# Altium footprint library FootprintsPersonals.PcbLib: 152 footprints (part 9 of 10)
Each footprint in its own frame and in the unit in brackets; x right, y up, seen from the top. Pads: shape width x height; smd on the part's side, far side on the other; paste and mask are expansions set on the pad; w line width, h text height; cw(c..) or ccw(c..) is an arc to the next point about the centre after c.
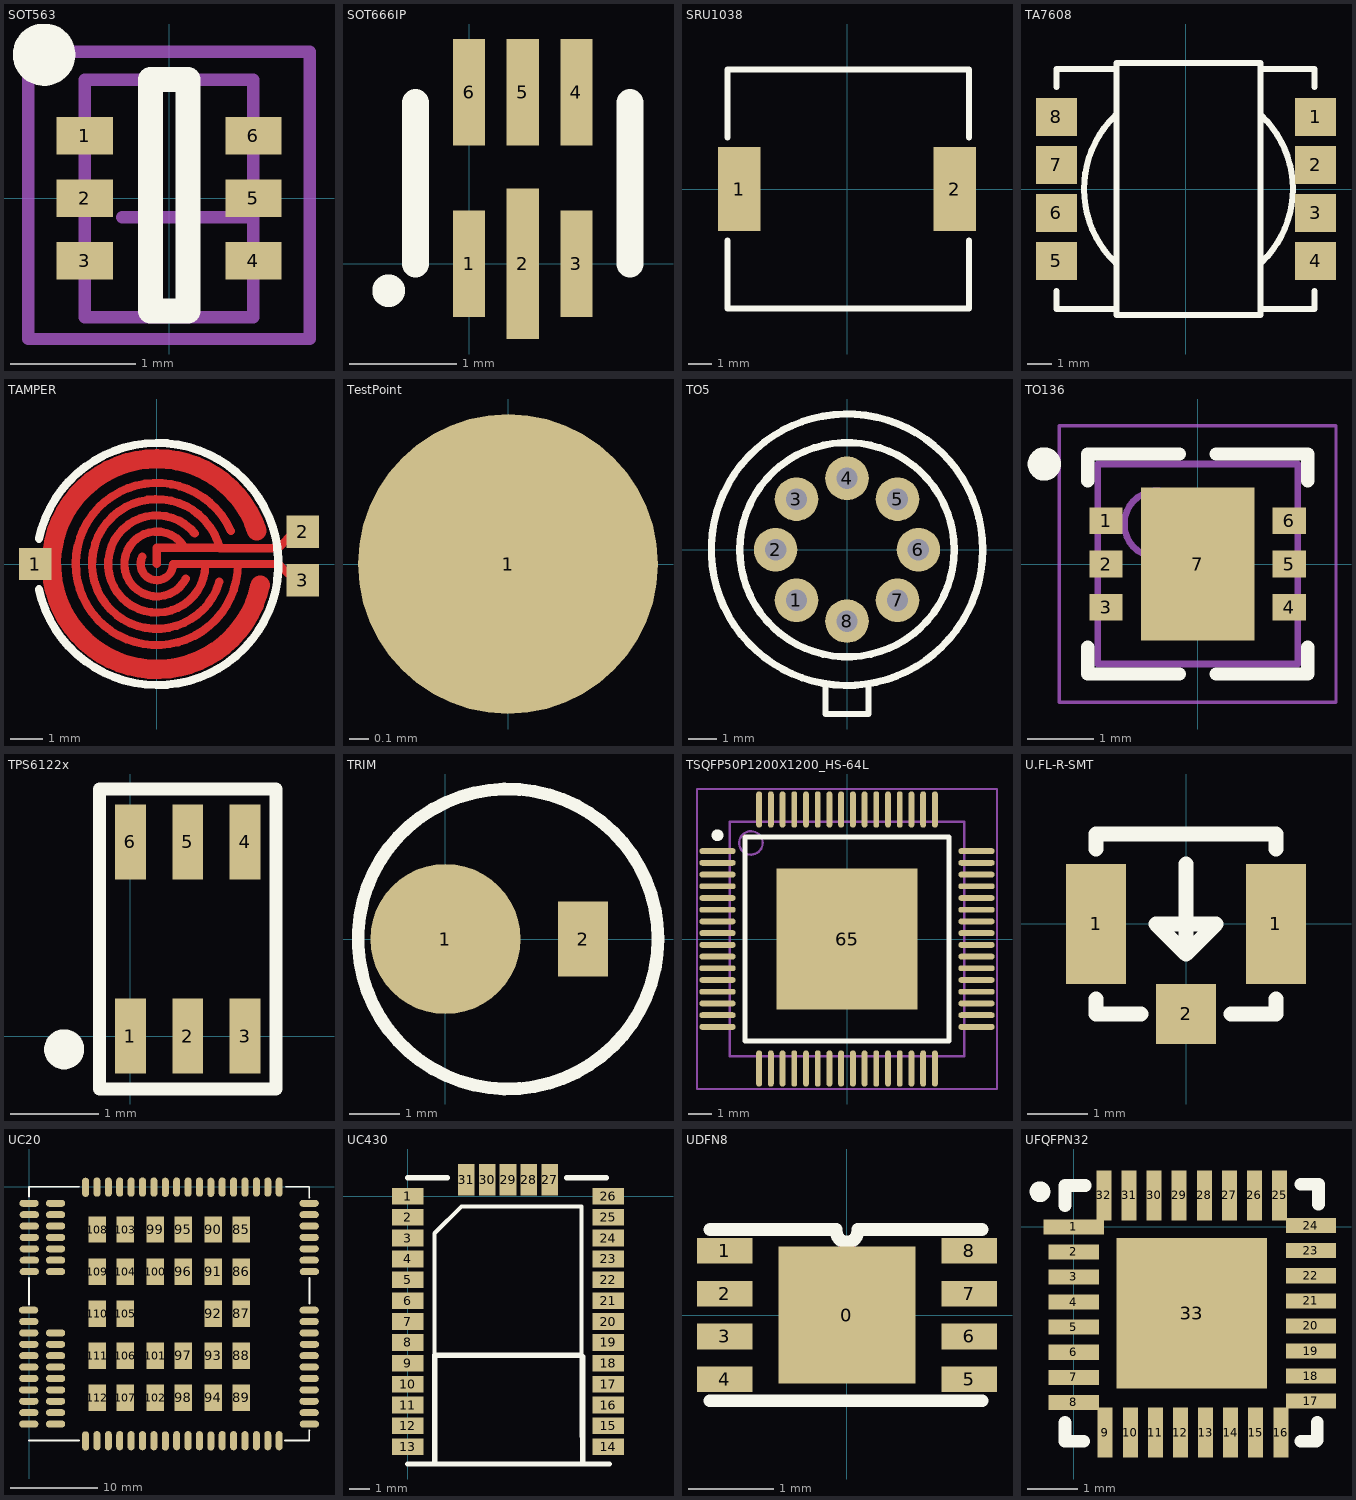
[diagram p8: the footprints below, top view; thin cyan lines are the x and y axes]

## SOT563 [mm] "SOT563, 5-Leads, Body 1.7x1.3mm, Pitch 0.5mm, Lead Span 0.3mm - IPC High Density"
height 0.6
pads (6):
  rect 0.45x0.3 smd: 1(-0.675,0.5) 2(-0.675,0) 3(-0.675,-0.5) 4(0.675,-0.5) 5(0.675,0) 6(0.675,0.5)
Top Overlay:
  circle w0.25: c-1,1.15 r0.125
  lines w0.2: -0.15,-0.9 -0.15,0.95 0.15,0.95 0.15,-0.9 -0.15,-0.9
Mechanical 13:
  lines w0.1: -0.675,-0.95 0.675,-0.95 0.675,0.95 -0.675,0.95 -0.675,-0.95
Mechanical 15:
  lines w0.1: -0.375,-0.15 0.625,-0.15 ; 0.125,-0.65 0.125,0.35 ; -1.125,-1.125 1.125,-1.125 1.125,1.175 -1.125,1.175 -1.125,-1.125
3D body: height 1.1, standoff 0, extent -0.675,-0.95 0.675,0.95

## SOT666IP [mm]
height 0.6
pads (6):
  rect 0.3x0.99 smd: 1(0,0) 3(1,0) 4(1,1.6) 5(0.5,1.6) 6(0,1.6)
  rect 0.3x1.4 smd: 2(0.5,0)
Top Overlay:
  circle w0.254: c-0.75,-0.25 r0.025
  lines w0.254: -0.5,0 -0.5,1.5 ; 1.5,0 1.5,1.5

## SRU1038 [mm] "Shielded SMD Power Inductors"
height 4.1
pads (2):
  rect 1.8x3.6 smd: 1(-4.6,0) 2(4.6,0)
Top Overlay:
  lines w0.254: -5.1,-2.2 -5.1,-5.1 0,-5.1 5.2,-5.1 5.2,-2.2 ; -5.1,2.2 -5.1,5.1 0,5.1 5.2,5.1 5.2,2.2

## TA7608 [mm]
height 6
pads (8):
  rect 1.7x1.6 smd: 1(5.4,3) 2(5.4,1) 3(5.4,-1) 4(5.4,-3) 5(-5.4,-3) 6(-5.4,-1) 7(-5.4,1) 8(-5.4,3)
Top Overlay:
  lines w0.254: -5.4,-4.25 -5.4,-5 -2.9,-5 ; -5.4,4.25 -5.4,5 ; -5.15,5 -5.4,5 ; -2.954,3.056 ccw(c0,0) -2.936,-3.073 ; -2.9,5 -5.4,5 ; 3.1,-5 5.35,-5 5.35,-4.25 ; 3.1,5 5.35,5 5.35,4.25 ; 3.136,3.073 cw(c0.2,0) 3.154,-3.056 ; -2.9,-5.25 3.1,-5.25 3.1,5.25 -2.9,5.25 -2.9,-5.25
3D body "Coilcraft-TA7608-AL.STEP": height 5.97, standoff 0, extent -6.15,-5 5.92,5

## TAMPER [mm]
pads (3):
  rect 1x1 smd paste+0 mask+0.102: 1(-3.75,0) 2(4.5,1) 3(4.5,-0.5)
Top Layer:
  lines w0.254: -0.447,0.224 ccw(c0,0) 0.5,0 2.488,0 3.75,0 4.25,-0.5 ; 0,0 0,0.5 2,0.5 ; 0.832,0.555 ccw(c0,0) 0.894,-0.447 ; 1.171,0.937 ccw(c0,0) 1.5,0 ; 1.48,-0.247 1.48,-0.23 ; 1.923,-0.549 cw(c0,0) 1.94,0.485 3.735,0.485 4.25,1 ; 2.285,1.015 ccw(c0,0) 2.5,0 ; 3.167,-0.731 3.167,-0.583
  lines w0.6: 3.083,1.028 ccw(c0,0) 3.182,-0.66
Top Overlay:
  lines w0.254: -3.634,-0.779 ccw(c0.017,0) -3.634,0.779

## TestPoint [mil]
pads (1):
  round 60 smd: 1(0,0)

## TO5 [mil]
pads (8):
  round 60 hole 29.53: 1(-69.6,-69.6) 2(-98.43,0) 3(-69.6,69.6) 4(0,98.43) 5(69.6,69.6) 6(98.43,0) 7(69.6,-69.6) 8(0,-98.43)
Top Overlay:
  circle w10: c0,0 r187.01
  circle w10: c0,0 r147.64
  lines w7.87: -29.53,-187.01 -29.53,-226.38 29.53,-226.38 29.53,-187.01

## TO136 [mm] "QFN, 6-Leads, Body 3,00x3,00mm, Pitch 0,65mm, Thermal Pad 1,70x2,30mm, IPC Medium Density"
height 1
pads (7):
  rect 0.5x0.4 smd: 1(-1.375,0.65) 2(-1.375,0) 3(-1.375,-0.65) 4(1.375,-0.65) 5(1.375,0) 6(1.375,0.65)
  rect 1.7x2.3 smd: 7(0,0)
Top Overlay:
  circle w0.25: c-2.3,1.5 r0.125
  lines w0.2: -1.65,-1.25 -1.65,-1.65 -0.275,-1.65 ; -1.65,1.25 -1.65,1.65 -0.275,1.65 ; 0.275,-1.65 1.65,-1.65 1.65,-1.25 ; 0.275,1.65 1.65,1.65 1.65,1.25
Mechanical 13:
  circle w0.1: c-0.6,0.6 r0.5
  lines w0.1: -1.5,-1.5 1.5,-1.5 1.5,1.5 -1.5,1.5 -1.5,-1.5
Mechanical 15:
  lines w0.05: -2.075,-2.075 2.075,-2.075 2.075,2.075 -2.075,2.075 -2.075,-2.075
  lines w0.1: -0.5,0 0.5,0 ; 0,-0.5 0,0.5
3D body "TO136-2.step": height 1, standoff 0, extent -1.501,-1.5 1.501,1.5

## TPS6122x [mm] "LDO Regulator"
pads (6):
  rect 0.35x0.85 smd: 1(0,0) 2(0.65,0) 3(1.3,0) 4(1.3,2.2) 5(0.65,2.2) 6(0,2.2)
Top Overlay:
  circle w0.254: c-0.75,-0.15 r0.1
  lines w0.15: -0.35,-0.6 1.65,-0.6 1.65,2.8 -0.35,2.8 -0.35,-0.6
3D body: height 1.1, standoff 0.1, extent -0.15,-0.4 1.45,2.6

## TRIM [mm]
height 8
pads (2):
  round 3 smd: 1(0,0)
  rect 1x1.5 smd: 2(2.75,0)
Top Overlay:
  circle w0.254: c1.25,0 r3

## TSQFP50P1200X1200_HS-64L [mm] "Thin QFP, 64-Leads, Body 10x10mm, Pitch 0.5mm, Exposed Pad, IPC High Density"
height 1.2
pads (65):
  oval 1.55x0.25 smd: 1(-5.525,3.75) 2(-5.525,3.25) 3(-5.525,2.75) 4(-5.525,2.25) 5(-5.525,1.75) 6(-5.525,1.25) 7(-5.525,0.75) 8(-5.525,0.25) 9(-5.525,-0.25) 10(-5.525,-0.75) 11(-5.525,-1.25) 12(-5.525,-1.75) 13(-5.525,-2.25) 14(-5.525,-2.75) 15(-5.525,-3.25) 16(-5.525,-3.75) 33(5.525,-3.75) 34(5.525,-3.25) 35(5.525,-2.75) 36(5.525,-2.25) 37(5.525,-1.75) 38(5.525,-1.25) 39(5.525,-0.75) 40(5.525,-0.25) 41(5.525,0.25) 42(5.525,0.75) 43(5.525,1.25) 44(5.525,1.75) 45(5.525,2.25) 46(5.525,2.75) 47(5.525,3.25) 48(5.525,3.75)
  oval 0.25x1.55 smd: 17(-3.75,-5.525) 18(-3.25,-5.525) 19(-2.75,-5.525) 20(-2.25,-5.525) 21(-1.75,-5.525) 22(-1.25,-5.525) 23(-0.75,-5.525) 24(-0.25,-5.525) 25(0.25,-5.525) 26(0.75,-5.525) 27(1.25,-5.525) 28(1.75,-5.525) 29(2.25,-5.525) 30(2.75,-5.525) 31(3.25,-5.525) 32(3.75,-5.525) 49(3.75,5.525) 50(3.25,5.525) 51(2.75,5.525) 52(2.25,5.525) 53(1.75,5.525) 54(1.25,5.525) 55(0.75,5.525) 56(0.25,5.525) 57(-0.25,5.525) 58(-0.75,5.525) 59(-1.25,5.525) 60(-1.75,5.525) 61(-2.25,5.525) 62(-2.75,5.525) 63(-3.25,5.525) 64(-3.75,5.525)
  rect 6x6 smd: 65(0,0)
Top Overlay:
  circle w0.25: c-5.525,4.425 r0.125
  lines w0.2: -4.35,-4.35 4.35,-4.35 4.35,4.35 -4.35,4.35 -4.35,-4.35
Mechanical 13:
  circle w0.1: c-4.1,4.1 r0.5
  lines w0.1: -5,-5 5,-5 5,5 -5,5 -5,-5
Mechanical 15:
  lines w0.1: -0.5,0 0.5,0 ; 0,-0.5 0,0.5 ; -6.4,-6.4 6.4,-6.4 6.4,6.4 -6.4,6.4 -6.4,-6.4
3D body: height 1.2, standoff 0, extent -5,-5 5,5

## U.FL-R-SMT [mm] "HIROSE SMD U.FL Antena connector."
height 1.27
pads (3):
  rect 1x2 smd: 1(-1.5,0) 1(1.5,0)
  rect 1x1 smd: 2(0,-1.5)
Top Overlay:
  lines w0.254: -1.5,-1.25 -1.5,-1.5 -0.75,-1.5 ; -1.5,1.25 -1.5,1.5 1.5,1.5 1.5,1.25 ; 0,1 0,-0.5 ; 0.75,-1.5 1.5,-1.5 1.5,-1.25 ; 0,-0.5 -0.5,0 0.5,0 0,-0.5

## UC20 [mm]
pads (116):
  oval 2.2x0.8 smd: 1(0,-1.9) 1(3.025,-1.9) 2(0.025,-3.2) 2(3.025,-3.2) 3(0.025,-4.5) 3(3.025,-4.5) 4(0.025,-5.8) 4(3.025,-5.8) 5(0.025,-7.1) 5(3.025,-7.1) 6(0.025,-8.4) 6(3.025,-8.4) 7(0.025,-9.7) 7(3.025,-9.7) 8(-0.05,-14.1) 9(-0.025,-15.4) 10(-0.025,-16.7) 10(3.025,-16.7) 11(-0.025,-18) 11(3.025,-18) 12(-0.025,-19.3) 12(3.025,-19.3) 13(-0.025,-20.6) 13(3.025,-20.6) 14(-0.025,-21.9) 14(3.025,-21.9) 15(-0.05,-23.2) 15(3.025,-23.2) 16(-0.025,-24.5) 16(3.025,-24.5) 17(-0.025,-25.8) 17(3.025,-25.8) 18(-0.025,-27.1) 18(3.025,-27.1) 37(32,-27.1) 38(31.975,-25.8) 39(31.975,-24.5) 40(31.975,-23.2) 41(31.975,-21.9) 42(31.975,-20.6) 43(31.975,-19.3) 44(32,-18) 45(31.975,-16.7) 46(31.975,-15.4) 47(31.975,-14.1) 48(32,-9.7) 49(31.975,-8.4) 50(31.975,-7.1) 51(31.975,-5.8) 52(31.975,-4.5) 53(31.975,-3.2) 54(31.975,-1.9)
  oval 0.8x2.2 smd: 19(6.45,-29.025) 20(7.75,-29) 21(9.05,-29) 22(10.35,-29) 23(11.65,-29) 24(12.95,-29) 25(14.25,-29) 26(15.55,-29.025) 27(16.85,-29) 28(18.15,-29) 29(19.45,-29) 30(20.75,-29.025) 31(22.05,-29) 32(23.35,-29) 33(24.65,-29) 34(25.95,-29) 35(27.25,-29) 36(28.55,-29) 55(28.55,-0.05) 56(27.25,-0.05) 57(25.95,-0.05) 58(24.65,-0.05) 59(23.35,-0.05) 60(22.05,-0.05) 61(20.75,-0.075) 62(19.45,-0.05) 63(18.15,-0.05) 64(16.85,-0.05) 65(15.55,-0.075) 66(14.25,-0.05) 67(12.95,-0.05) 68(11.65,-0.05) 69(10.35,-0.05) 70(9.05,-0.05) 71(7.75,-0.05) 72(6.45,-0.075)
  rect 2x3 smd: 85(24.2,-4.9) 86(24.2,-9.7) 87(24.2,-14.5) 88(24.2,-19.3) 89(24.2,-24.1) 90(21,-4.9) 91(21,-9.7) 92(21,-14.5) 93(21,-19.3) 94(21,-24.1) 95(17.6,-4.9) 96(17.6,-9.7) 97(17.6,-19.3) 98(17.6,-24.1) 99(14.4,-4.9) 100(14.4,-9.7) 101(14.4,-19.3) 102(14.4,-24.1) 103(11,-4.9) 104(11,-9.7) 105(11,-14.5) 106(11,-19.3) 107(11,-24.1) 108(7.8,-4.9) 109(7.8,-9.7) 110(7.8,-14.5) 111(7.8,-19.3) 112(7.8,-24.1)
Top Overlay:
  lines w0.2: 0,-28.975 5.696,-28.975 ; 0,-13.462 0,-10.414 ; 0,-1.143 0,0 5.715,0 ; 29.229,-28.975 32,-28.975 32,-27.817 32.004,-27.813 ; 29.337,0 32,0 32,-1.266 32.004,-1.27 ; 32.004,-13.335 32.004,-10.414
3D body: height 0, standoff 0, extent 0,-29.075 32,0.025

## UC430 [mm]
pads (31):
  rect 1.5x0.8 smd: 1(0,0) 2(0,-1) 3(0,-2) 4(0,-3) 5(0,-4) 6(0,-5) 7(0,-6) 8(0,-7) 9(0,-8) 10(0,-9) 11(0,-10) 12(0,-11) 13(0,-12) 14(9.6,-12) 15(9.6,-11) 16(9.6,-10) 17(9.6,-9) 18(9.6,-8) 19(9.6,-7) 20(9.6,-6) 21(9.6,-5) 22(9.6,-4) 23(9.6,-3) 24(9.6,-2) 25(9.6,-1) 26(9.6,0)
  rect 0.8x1.5 smd: 27(6.8,0.8) 28(5.8,0.8) 29(4.8,0.8) 30(3.8,0.8) 31(2.8,0.8)
Top Overlay:
  lines w0.2: 1.285,-11.515 1.285,-1.77 2.57,-0.485 8.315,-0.485 8.315,-11.515
  lines w0.254: 0,-12.827 9.652,-12.827 ; 0,0.889 1.905,0.889 ; 1.285,-12.827 1.285,-7.62 8.315,-7.62 8.382,-7.687 8.382,-12.7 ; 7.62,0.889 9.525,0.889

## UDFN8 [mm]
pads (9):
  rect 1.6x1.6 smd: 0(0,0)
  rect 0.65x0.3 smd: 1(-1.425,0.75) 2(-1.425,0.25) 3(-1.425,-0.25) 4(-1.425,-0.75) 5(1.425,-0.75) 6(1.425,-0.25) 7(1.425,0.25) 8(1.425,0.75)
Top Overlay:
  lines w0.15: -1.6,-1 1.575,-1 ; -1.6,1 -0.125,1 ; -0.125,0.975 ccw(c0,0.975) 0.125,0.975 ; 0.125,1 1.575,1

## UFQFPN32 [mm]
pads (33):
  rect 1.2x0.3 smd: 1(0,0)
  rect 1x0.3 smd: 2(0,-0.5) 3(0,-1) 4(0,-1.5) 5(0,-2) 6(0,-2.5) 7(0,-3) 8(0,-3.5) 17(4.725,-3.475) 18(4.725,-2.975) 19(4.725,-2.475) 20(4.725,-1.975) 21(4.725,-1.475) 22(4.725,-0.975) 23(4.725,-0.475) 24(4.725,0.025)
  rect 0.3x1 smd: 9(0.625,-4.1) 10(1.125,-4.1) 11(1.625,-4.1) 12(2.125,-4.1) 13(2.625,-4.1) 14(3.125,-4.1) 15(3.625,-4.1) 16(4.125,-4.1) 25(4.1,0.625) 26(3.6,0.625) 27(3.1,0.625) 28(2.6,0.625) 29(2.1,0.625) 30(1.6,0.625) 31(1.1,0.625) 32(0.6,0.625)
  rect 3x3 smd: 33(2.35,-1.725)
Top Overlay:
  circle w0.254: c-0.675,0.7 r0.079
  lines w0.254: -0.175,-3.9 -0.175,-4.275 0.2,-4.275 ; -0.175,0.425 -0.175,0.825 0.225,0.825 ; 4.525,-4.275 4.825,-4.275 4.85,-4.25 4.85,-3.9 ; 4.525,0.85 4.875,0.85 4.875,0.45
3D body: height 1, standoff 0, extent -0.175,-4.275 4.875,0.85